# Altium footprint library Mechanical_Connectors_Rectangular_1.25_GH.PcbLib: 1 footprints
Each footprint in its own frame and in the unit in brackets; x right, y up, seen from the top. Pads: shape width x height; smd on the part's side, far side on the other; paste and mask are expansions set on the pad; w line width, h text height; cw(c..) or ccw(c..) is an arc to the next point about the centre after c.
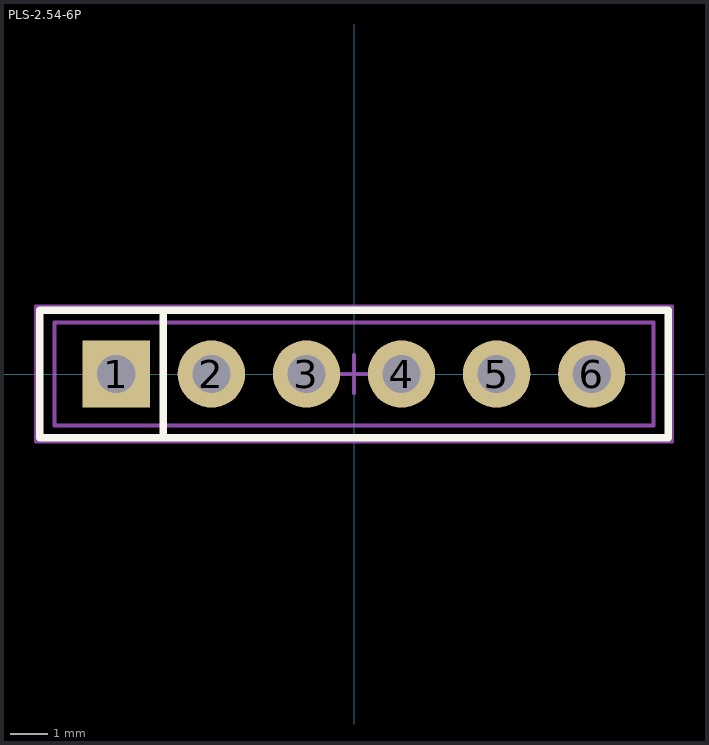
[diagram p0: the footprint, top view; thin cyan lines are the x and y axes]

## PLS-2.54-6P [mm]
height 8.54
pads (6):
  rect 1.8x1.8 hole 1.02: 1(-6.35,0)
  round 1.8 hole 1.02: 2(-3.81,0) 3(-1.27,0) 4(1.27,0) 5(3.81,0) 6(6.35,0)
Top Overlay:
  lines w0.2: -5.1,-1.7 -5.1,1.7 ; -8.4,-1.7 -8.4,1.7 8.4,1.7 8.4,-1.7 -8.4,-1.7
Top Package:
  circle w0.1: c6.35,0 r0.4
  circle w0.1: c-6.35,0 r0.4
  circle w0.1: c3.81,0 r0.4
  circle w0.1: c-1.27,0 r0.4
  circle w0.1: c-3.81,0 r0.4
  circle w0.1: c1.27,0 r0.4
  lines w0.1: -8,-1.375 -8,1.375 8,1.375 8,-1.375 -8,-1.375
Top Comment:
  text ".Comment" at -3.548,2.185 h2.5
Top Designator:
  text ".Designator" at -4.303,2.417 h2.5
Top Border:
  lines w0.1: -0.5,0 0.5,0 ; 0,-0.5 0,0.5 ; -8.5,-1.8 8.5,-1.8 8.5,1.8 -8.5,1.8 -8.5,-1.8 ; -0.508,0 0.508,0 -0.508,0 ; 0,-0.508 0,0.508 0,-0.508
3D body "PL-1x V1.stp": height 9.2, standoff -3.5, extent 2.54,-1.27 5.08,1.27
3D body "PL-1x V1.stp": height 9.2, standoff -3.5, extent 0,-1.27 2.54,1.27
3D body "PL-1x V1.stp": height 9.2, standoff -3.5, extent -2.54,-1.27 0,1.27
3D body "PL-1x V1.stp": height 9.2, standoff -3.5, extent -5.08,-1.27 -2.54,1.27
3D body "PL-1x V1.stp": height 9.2, standoff -3.5, extent -7.62,-1.27 -5.08,1.27
3D body "PL-1x V1.stp": height 9.2, standoff -3.5, extent 5.08,-1.27 7.62,1.27